# Altium schematic symbol library IMU_ld.SchLib: 7 symbols
Pins are listed as number, name and electrical type; pins without a type are passive.

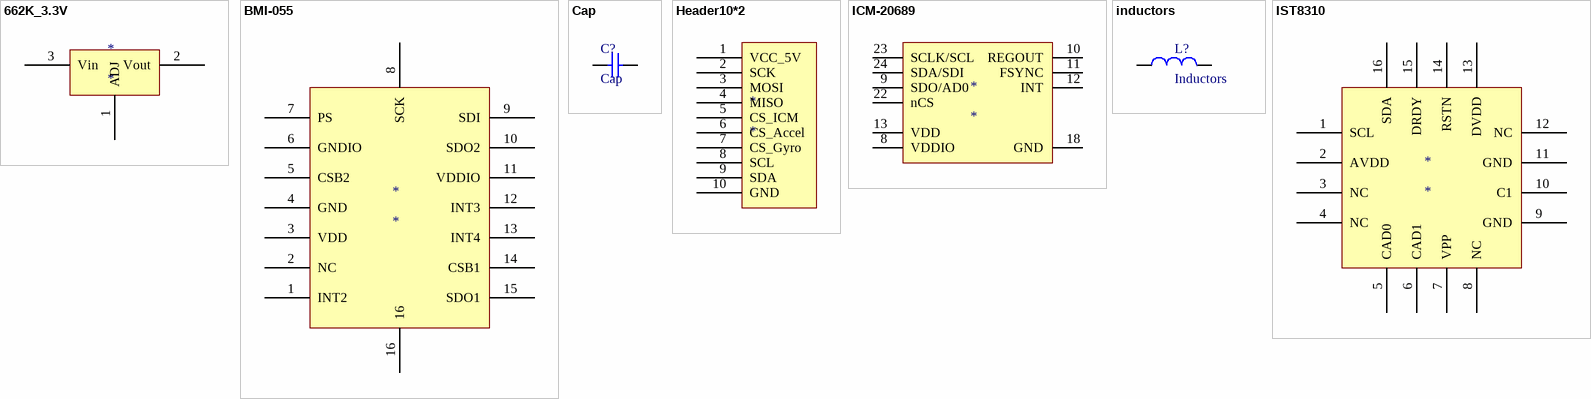
[diagram p0: symbols 662K_3.3V to IST8310]

## 662K_3.3V
designator *
pins: 1 ADJ, 2 Vout, 3 Vin

## BMI-055
designator *
pins: 1 INT2, 2 NC, 3 VDD, 4 GND, 5 CSB2, 6 GNDIO, 7 PS, 8 SCK, 9 SDI, 10 SDO2, 11 VDDIO, 12 INT3, 13 INT4, 14 CSB1, 15 SDO1, 16

## Cap
designator C?
pins: 1, 2

## Header10*2
designator *
pins: 1 VCC_5V, 2 SCK, 3 MOSI, 4 MISO, 5 CS_ICM, 6 CS_Accel, 7 CS_Gyro, 8 SCL, 9 SDA, 10 GND

## ICM-20689
designator *
pins: 8 VDDIO, 9 SDO/AD0, 10 REGOUT, 11 FSYNC, 12 INT, 13 VDD, 18 GND, 22 nCS, 23 SCLK/SCL, 24 SDA/SDI

## inductors
designator L?, comment Inductors
pins: 1, 2

## IST8310
designator *
pins: 1 SCL, 2 AVDD, 3 NC, 4 NC, 5 CAD0, 6 CAD1, 7 VPP, 8 NC, 9 GND, 10 C1, 11 GND, 12 NC, 13 DVDD, 14 RSTN, 15 DRDY, 16 SDA